# EAGLE library part CON6X1 (library Stecker_Pins)
Pin-Leiste, 6*1
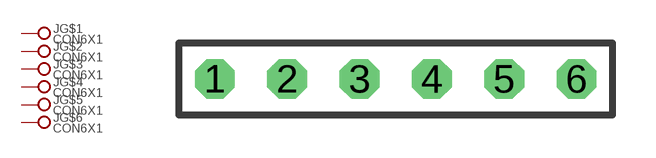
[diagram p20: symbol with the pads of CON6X1; footprint CON6X1]

Designator prefix J; gates G$1=CON1M_V G$2=CON1M_V G$3=CON1M_V G$4=CON1M_V G$5=CON1M_V G$6=CON1M_V

## CON6X1  [CON6X1]
1  G$1:1
2  G$2:1
3  G$3:1
4  G$4:1
5  G$5:1
6  G$6:1

## Footprint CON6X1 (pad centres in mm)
drill 0.8 pad 1.397 octagon: 1 -6.35,0; 2 -3.81,0; 3 -1.27,0; 4 1.27,0; 5 3.81,0; 6 6.35,0